# Altium integrated library MISCELANEOUS.IntLib: 23 symbols
Pins are listed as number, name and electrical type; pins without a type are passive.

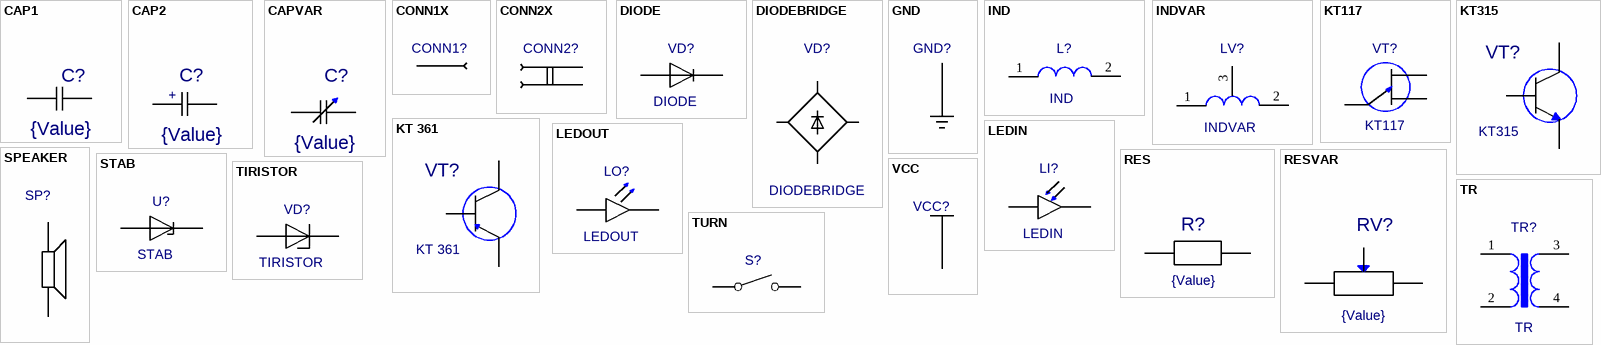
[diagram p0: symbols CAP1 to VCC]

## CAP1
designator C?  value {Value}  (hidden comment: *)
footprint CAP1
pins: 1, 2

## CAP2
designator C?  value {Value}  (hidden comment: *)
footprint CAP2
pins: 1, 2
text: +

## CAPVAR
designator C?  value {Value}  (hidden comment: *)
footprint CAPVAR
pins: 1, 2

## CONN1X
designator CONN1?  (value not drawn)
Value: *
footprint CONN1X
pins: 1

## CONN2X
designator CONN2?  (value not drawn)
Value: *
footprint CONN2X
pins: 1, 2

## DIODE
designator VD?
Value: *
footprint DIODE
pins: 1, 2

## DIODEBRIDGE
designator VD?
Value: *
footprint DIODEBRIDGE
pins: 1, 2, 3, 4

## GND
designator GND?  (value not drawn)
Value: *
pins: 1 (power)

## IND
designator L?
Value: *
footprint RES
pins: 1, 2

## INDVAR
designator LV?
Value: *
footprint INDVAR
pins: 1, 2, 3

## KT117
designator VT?
Value: *
footprint KT-17
pins: 1 B1, 2 B2, 3 E

## KT315
designator VT?
Value: *
footprint KT-13
pins: 1 E, 2 K, 3 B

## KT 361
designator VT?
Value: *
footprint KT-13
pins: 1 K, 2 E, 3 B

## LEDIN
designator LI?
Value: *
footprint CAP2
pins: 1, 2

## LEDOUT
designator LO?
Value: *
footprint CAP2
pins: 1, 2

## RES
designator R?  value {Value}  (hidden comment: *)
footprint RES
pins: 1, 2

## RESVAR
designator RV?  value {Value}  (hidden comment: *)
footprint RESVAR
pins: 1, 2, 3

## SPEAKER
designator SP?  (value not drawn)
Value: *
footprint CAP1
pins: 1, 2

## STAB
designator U?
Value: *
footprint DIODE
pins: 1, 2

## TIRISTOR
designator VD?
Value: *
footprint KT-13
pins: 1 K, 2 A, 3 S

## TR
designator TR?
Value: *
footprint TR
pins: 1, 2, 3, 4

## TURN
designator S?  (value not drawn)
Value: *
footprint TRN
pins: 1, 2

## VCC
designator VCC?  (value not drawn)
Value: *
pins: 1 (power)